# Altium footprint library footprint_lib.PcbLib: 20 footprints (part 1 of 2)
Each footprint in its own frame and in the unit in brackets; x right, y up, seen from the top. Pads: shape width x height; smd on the part's side, far side on the other; paste and mask are expansions set on the pad; w line width, h text height; cw(c..) or ccw(c..) is an arc to the next point about the centre after c.
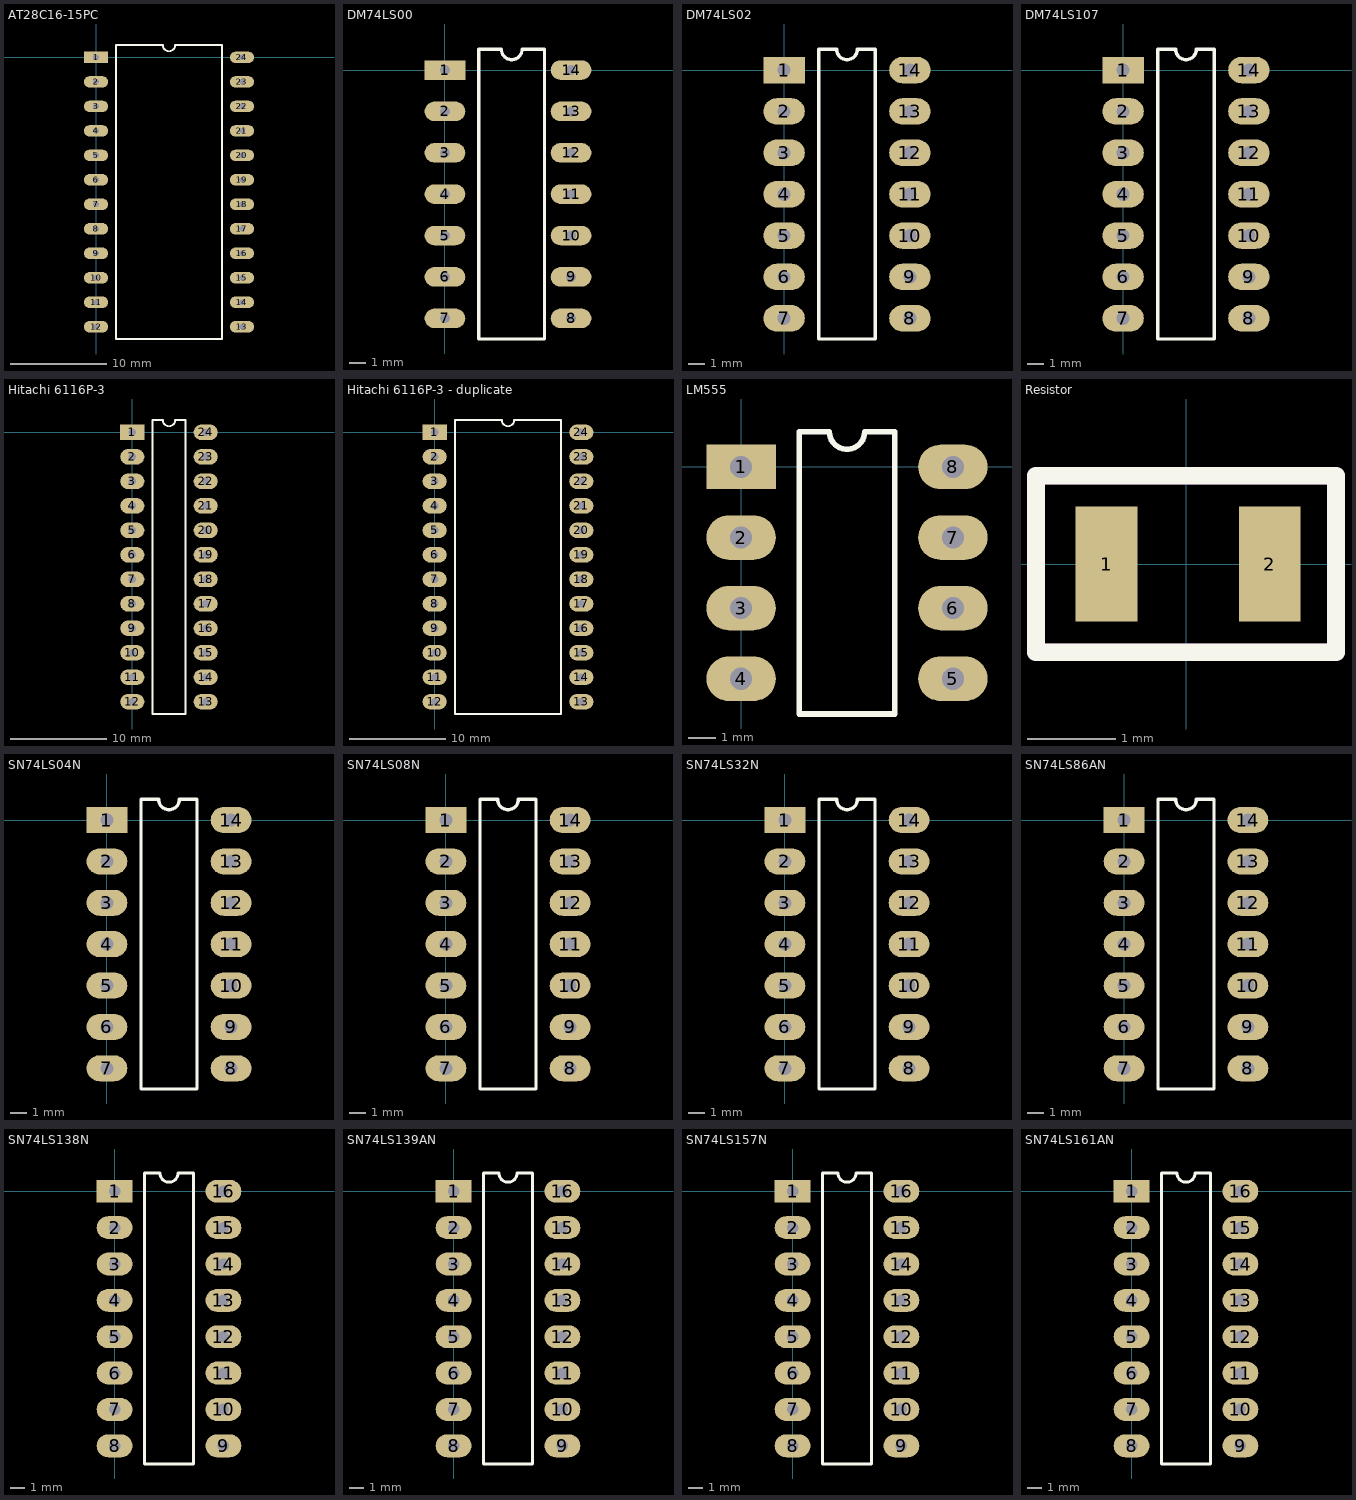
[diagram p0: the footprints below, top view; thin cyan lines are the x and y axes]

## AT28C16-15PC [mm]
pads (24):
  rect 2.5x1.2 hole 0.6: 1(0,0)
  oval 2.5x1.2 hole 0.6: 2(0,-2.55) 3(0,-5.1) 4(0,-7.65) 5(0,-10.2) 6(0,-12.75) 7(0,-15.3) 8(0,-17.85) 9(0,-20.4) 10(0,-22.95) 11(0,-25.5) 12(0,-28.05) 13(15.2,-28.05) 14(15.2,-25.5) 15(15.2,-22.95) 16(15.2,-20.4) 17(15.2,-17.85) 18(15.2,-15.3) 19(15.2,-12.75) 20(15.2,-10.2) 21(15.2,-7.65) 22(15.2,-5.1) 23(15.2,-2.55) 24(15.2,0)
Top Overlay:
  lines w0.2: 2.085,-29.325 2.085,1.275 6.963,1.275 ccw(c7.6,1.275) 8.237,1.275 13.115,1.275 13.115,-29.325 2.085,-29.325
3D body "CircuitWorks-DIP 24 IC WITH 0_280IN WINDOW.step": height 6.29, standoff -2.8, extent 0.129,-29.909 15.365,2.731

## DM74LS00 [mm]
pads (14):
  rect 2.5x1.2 hole 0.6: 1(0,0)
  oval 2.5x1.2 hole 0.6: 2(0,-2.54) 3(0,-5.08) 4(0,-7.62) 5(0,-10.16) 6(0,-12.7) 7(0,-15.24) 8(7.747,-15.24) 9(7.747,-12.7) 10(7.747,-10.16) 11(7.745,-7.62) 12(7.747,-5.08) 13(7.747,-2.54) 14(7.745,0)
Top Overlay:
  lines w0.2: 2.085,-16.51 6.115,-16.51 6.115,1.27 4.735,1.27 cw(c4.1,1.27) 3.465,1.27 2.085,1.27 2.085,-16.51
3D body "CircuitWorks-DIP 14 IC.step": height 5.6, standoff -2.8, extent 0,-17.587 7.87,2.413
3D body: height 0.25, standoff 0, extent 10.414,-15.24 10.414,-15.24

## DM74LS02 [mm]
pads (14):
  rect 2.5x1.6 hole 0.8: 1(0,0)
  oval 2.5x1.6 hole 0.8: 2(0,-2.5) 3(0,-5) 4(0,-7.5) 5(0,-10) 6(0,-12.5) 7(0,-15) 8(7.6,-15) 9(7.6,-12.5) 10(7.6,-10) 11(7.6,-7.5) 12(7.6,-5) 13(7.6,-2.5) 14(7.6,0)
Top Overlay:
  lines w0.2: 2.085,-16.25 5.515,-16.25 5.515,1.25 4.425,1.25 cw(c3.8,1.25) 3.175,1.25 2.085,1.25 2.085,-16.25
3D body "CircuitWorks-DIP 14 IC.step": height 5.6, standoff -2.8, extent -0.143,-17.373 7.727,2.627
3D body: height 5.1, standoff -3.3, extent 5.842,0.508 5.842,0.508
3D body: height 5.1, standoff -3.3, extent 5.842,0.508 5.842,0.508

## DM74LS107 [mm]
pads (14):
  rect 2.5x1.6 / inner rect 2.5x1.2 / far side rect 2.5x1.6 hole 0.8: 1(0,0)
  oval 2.5x1.6 / inner oval 2.5x1.2 / far side oval 2.5x1.6 hole 0.8: 2(0,-2.5) 3(0,-5) 4(0,-7.5) 5(0,-10) 6(0,-12.5) 7(0,-15) 8(7.6,-15) 9(7.6,-12.5) 10(7.6,-10) 11(7.6,-7.5) 12(7.6,-5) 13(7.6,-2.5) 14(7.6,0)
Top Overlay:
  lines w0.2: 2.085,-16.25 5.515,-16.25 5.515,1.25 4.425,1.25 cw(c3.8,1.25) 3.175,1.25 2.085,1.25 2.085,-16.25
3D body "CircuitWorks-DIP 14 IC.step": height 5.6, standoff -2.8, extent -0.125,-17.493 7.745,2.507
3D body: height 5.1, standoff -3.3, extent 5.969,-1.651 5.969,-1.651
3D body: height 5.1, standoff -3.3, extent 5.969,-1.524 5.969,-1.524
3D body: height 5.1, standoff -3.3, extent 1.651,-1.143 1.651,-1.143
3D body: height 5.1, standoff -3.3, extent 1.651,-1.143 1.651,-1.143
3D body: height 5.1, standoff -3.3, extent 1.778,-0.254 1.778,-0.254

## Hitachi 6116P-3 [mm]
pads (24):
  rect 2.5x1.6 hole 0.8: 1(0,0)
  oval 2.5x1.6 hole 0.8: 2(0,-2.54) 3(0,-5.08) 4(0,-7.62) 5(0,-10.16) 6(0,-12.7) 7(0,-15.24) 8(0,-17.78) 9(0,-20.32) 10(0,-22.86) 11(0,-25.4) 12(0,-27.94) 13(7.62,-27.94) 14(7.62,-25.4) 15(7.62,-22.86) 16(7.62,-20.32) 17(7.62,-17.78) 18(7.62,-15.24) 19(7.62,-12.7) 20(7.62,-10.16) 21(7.62,-7.62) 22(7.62,-5.08) 23(7.62,-2.54) 24(7.62,0)
Top Overlay:
  lines w0.2: 2.085,-29.21 2.085,1.27 3.175,1.27 ccw(c3.81,1.27) 4.445,1.27 5.535,1.27 5.535,-29.21 2.085,-29.21

## Hitachi 6116P-3 - duplicate [mm]
pads (24):
  rect 2.5x1.6 hole 0.8: 1(0,0)
  oval 2.5x1.6 hole 0.8: 2(0,-2.54) 3(0,-5.08) 4(0,-7.62) 5(0,-10.16) 6(0,-12.7) 7(0,-15.24) 8(0,-17.78) 9(0,-20.32) 10(0,-22.86) 11(0,-25.4) 12(0,-27.94) 13(15.2,-27.94) 14(15.2,-25.4) 15(15.2,-22.86) 16(15.2,-20.32) 17(15.2,-17.78) 18(15.2,-15.24) 19(15.2,-12.7) 20(15.2,-10.16) 21(15.2,-7.62) 22(15.2,-5.08) 23(15.2,-2.54) 24(15.2,0)
Top Overlay:
  lines w0.2: 2.085,-29.21 2.085,1.27 6.965,1.27 ccw(c7.6,1.27) 8.235,1.27 13.115,1.27 13.115,-29.21 2.085,-29.21
3D body "CircuitWorks-DIP 24 IC WITH 0_280IN WINDOW.step": height 6.29, standoff -2.8, extent 0.002,-29.909 15.238,2.731

## LM555 [mm]
pads (8):
  rect 2.5x1.6 hole 0.8: 1(0,0)
  oval 2.5x1.6 hole 0.8: 2(0,-2.54) 3(0,-5.08) 4(0,-7.62) 5(7.62,-7.62) 6(7.62,-5.08) 7(7.62,-2.54) 8(7.62,0)
Top Overlay:
  lines w0.2: 2.085,-8.89 5.535,-8.89 5.535,1.27 4.445,1.27 cw(c3.81,1.27) 3.175,1.27 2.085,1.27 2.085,-8.89
3D body "CircuitWorks-DIP8.step": height 4.69, standoff -2.17, extent -0.254,-9.652 7.62,1.778
3D body: height 4, standoff -4, extent 14.605,0.889 14.605,0.889
3D body: height 4, standoff -4, extent 14.605,0.889 14.605,0.889

## Resistor [mm]
pads (2):
  rect 0.7x1.3 smd: 1(-0.9,0) 2(0.95,0)
Top Overlay:
  lines w0.2: -1.7,-1 -1.7,1 1.7,1 1.7,-1 -1.7,-1
Mechanical 1:
  lines w0.2: -1.7,-1 -1.7,1 ; -1.7,-1 1.7,-1 ; -1.7,-1 -1.7,1 ; -1.7,-1 1.7,-1 ; -1.7,1 1.7,1 ; -1.7,1 1.7,1 ; 1.7,-1 1.7,1 ; 1.7,-1 1.7,1

## SN74LS04N [mm]
pads (14):
  rect 2.5x1.6 hole 0.8: 1(0,0)
  oval 2.5x1.6 hole 0.8: 2(0,-2.54) 3(0,-5.08) 4(0,-7.62) 5(0,-10.16) 6(0,-12.7) 7(0,-15.24) 8(7.62,-15.24) 9(7.62,-12.7) 10(7.62,-10.16) 11(7.62,-7.62) 12(7.62,-5.08) 13(7.62,-2.54) 14(7.62,0)
Top Overlay:
  lines w0.2: 2.085,-16.51 5.535,-16.51 5.535,1.27 4.445,1.27 cw(c3.81,1.27) 3.175,1.27 2.085,1.27 2.085,-16.51
3D body: height 4, standoff -4, extent 4.318,-4.445 4.318,-4.445
3D body "CircuitWorks-DIP-14.step": height 4.51, standoff -2.47, extent -0.19,-17.272 7.81,1.778
3D body: height 4, standoff -4, extent 14.478,-3.175 14.478,-3.175
3D body: height 4, standoff -4, extent 14.732,-3.81 14.732,-3.81

## SN74LS08N [mm]
pads (14):
  rect 2.5x1.6 hole 0.8: 1(0,0)
  oval 2.5x1.6 hole 0.8: 2(0,-2.54) 3(0,-5.08) 4(0,-7.62) 5(0,-10.16) 6(0,-12.7) 7(0,-15.24) 8(7.62,-15.24) 9(7.62,-12.7) 10(7.62,-10.16) 11(7.62,-7.62) 12(7.62,-5.08) 13(7.62,-2.54) 14(7.62,0)
Top Overlay:
  lines w0.2: 2.085,-16.51 2.085,1.27 3.175,1.27 ccw(c3.81,1.27) 4.445,1.27 5.535,1.27 5.535,-16.51 2.085,-16.51
3D body "CircuitWorks-DIP-14.step": height 4.51, standoff -2.47, extent -0.19,-17.018 7.81,2.032
3D body: height 4.36, standoff -3, extent 11.176,-2.159 11.176,-2.159

## SN74LS32N [mm]
pads (14):
  rect 2.5x1.6 hole 0.8: 1(0,0)
  oval 2.5x1.6 hole 0.8: 2(0,-2.54) 3(0,-5.08) 4(0,-7.62) 5(0,-10.16) 6(0,-12.7) 7(0,-15.24) 8(7.62,-15.24) 9(7.62,-12.7) 10(7.62,-10.16) 11(7.62,-7.62) 12(7.62,-5.08) 13(7.62,-2.54) 14(7.62,0)
Top Overlay:
  lines w0.2: 2.085,-16.51 5.535,-16.51 5.535,1.27 4.445,1.27 cw(c3.81,1.27) 3.175,1.27 2.085,1.27 2.085,-16.51
3D body "CircuitWorks-DIP-14.step": height 4.01, standoff -2.97, extent -0.19,-17.145 7.81,1.905

## SN74LS86AN [mm]
pads (14):
  rect 2.5x1.6 / inner rect 2.5x1.2 / far side rect 2.5x1.6 hole 0.8: 1(0,0)
  oval 2.5x1.6 / inner oval 2.5x1.2 / far side oval 2.5x1.6 hole 0.8: 2(0,-2.54) 3(0,-5.08) 4(0,-7.62) 5(0,-10.16) 6(0,-12.7) 7(0,-15.24) 8(7.6,-15.24) 9(7.6,-12.7) 10(7.6,-10.16) 11(7.6,-7.62) 12(7.6,-5.08) 13(7.6,-2.54) 14(7.6,0)
Top Overlay:
  lines w0.2: 2.085,-16.51 2.085,1.27 3.165,1.27 ccw(c3.8,1.27) 4.435,1.27 5.515,1.27 5.515,-16.51 2.085,-16.51
3D body "CircuitWorks-DIP 14 IC.step": height 5.6, standoff -2.8, extent -0.125,-17.62 7.745,2.38

## SN74LS138N [mm]
pads (16):
  rect 2.5x1.6 / inner rect 2.5x1.2 / far side rect 2.5x1.6 hole 0.8: 1(0,0)
  oval 2.5x1.6 / inner oval 2.5x1.2 / far side oval 2.5x1.6 hole 0.8: 2(0,-2.54) 3(0,-5.08) 4(0,-7.62) 5(0,-10.16) 6(0,-12.7) 7(0,-15.24) 8(0,-17.78) 9(7.6,-17.78) 10(7.6,-15.24) 11(7.6,-12.7) 12(7.6,-10.16) 13(7.6,-7.62) 14(7.6,-5.08) 15(7.6,-2.54) 16(7.6,0)
Top Overlay:
  lines w0.2: 2.085,-19.05 5.515,-19.05 5.515,1.27 4.435,1.27 cw(c3.8,1.27) 3.165,1.27 2.085,1.27 2.085,-19.05
3D body: height 5.1, standoff -3.3, extent -2.794,-10.795 -2.794,-10.795
3D body "CircuitWorks-DIP 16 IC.step": height 5.6, standoff -2.8, extent -0.125,-18.984 7.745,1.016

## SN74LS139AN [mm]
pads (16):
  rect 2.5x1.6 / inner rect 2.5x1.2 / far side rect 2.5x1.6 hole 0.8: 1(0,0)
  oval 2.5x1.6 / inner oval 2.5x1.2 / far side oval 2.5x1.6 hole 0.8: 2(0,-2.54) 3(0,-5.08) 4(0,-7.62) 5(0,-10.16) 6(0,-12.7) 7(0,-15.24) 8(0,-17.78) 9(7.6,-17.78) 10(7.6,-15.24) 11(7.6,-12.7) 12(7.6,-10.16) 13(7.6,-7.62) 14(7.6,-5.08) 15(7.6,-2.54) 16(7.6,0)
Top Overlay:
  lines w0.2: 2.085,-19.05 2.085,1.27 3.165,1.27 ccw(c3.8,1.27) 4.435,1.27 5.515,1.27 5.515,-19.05 2.085,-19.05
3D body "CircuitWorks-DIP 16 IC.step": height 5.6, standoff -2.8, extent -0.252,-19.05 7.618,0.95

## SN74LS157N [mm]
pads (16):
  rect 2.5x1.6 / inner rect 2.5x1.2 / far side rect 2.5x1.6 hole 0.8: 1(0,0)
  oval 2.5x1.6 / inner oval 2.5x1.2 / far side oval 2.5x1.6 hole 0.8: 2(0,-2.54) 3(0,-5.08) 4(0,-7.62) 5(0,-10.16) 6(0,-12.7) 7(0,-15.24) 8(0,-17.78) 9(7.6,-17.78) 10(7.6,-15.24) 11(7.6,-12.7) 12(7.6,-10.16) 13(7.6,-7.62) 14(7.6,-5.08) 15(7.6,-2.54) 16(7.6,0)
Top Overlay:
  lines w0.2: 2.085,-19.05 2.085,1.27 3.165,1.27 ccw(c3.8,1.27) 4.435,1.27 5.515,1.27 5.515,-19.05 2.085,-19.05
3D body "CircuitWorks-DIP 16 IC.step": height 5.6, standoff -2.8, extent -0.125,-19.017 7.745,0.983

## SN74LS161AN [mm]
pads (16):
  rect 2.5x1.6 hole 0.8: 1(0,0)
  oval 2.5x1.6 hole 0.8: 2(0,-2.54) 3(0,-5.08) 4(0,-7.62) 5(0,-10.16) 6(0,-12.7) 7(0,-15.24) 8(0,-17.78) 9(7.6,-17.78) 10(7.6,-15.24) 11(7.6,-12.7) 12(7.6,-10.16) 13(7.6,-7.62) 14(7.6,-5.08) 15(7.6,-2.54) 16(7.6,0)
Top Overlay:
  lines w0.2: 2.085,-19.05 2.085,1.27 3.165,1.27 ccw(c3.8,1.27) 4.435,1.27 5.515,1.27 5.515,-19.05 2.085,-19.05
3D body "CircuitWorks-DIP 16 IC.step": height 5.6, standoff -2.8, extent -0.125,-19.144 7.745,0.856